# Altium schematic symbol library SW_SPST.Schlib: 1 symbol
Pins are listed as number, name and electrical type; pins without a type are passive.

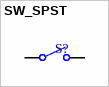
[diagram p0: symbol SW_SPST]

## SW_SPST
designator S?
pins: COM1 COMMON, NO1 NO